# Altium footprint library Generic Connector.PcbLib: 143 footprints (part 5 of 9)
Each footprint in its own frame and in the unit in brackets; x right, y up, seen from the top. Pads: shape width x height; smd on the part's side, far side on the other; paste and mask are expansions set on the pad; w line width, h text height; cw(c..) or ccw(c..) is an arc to the next point about the centre after c.
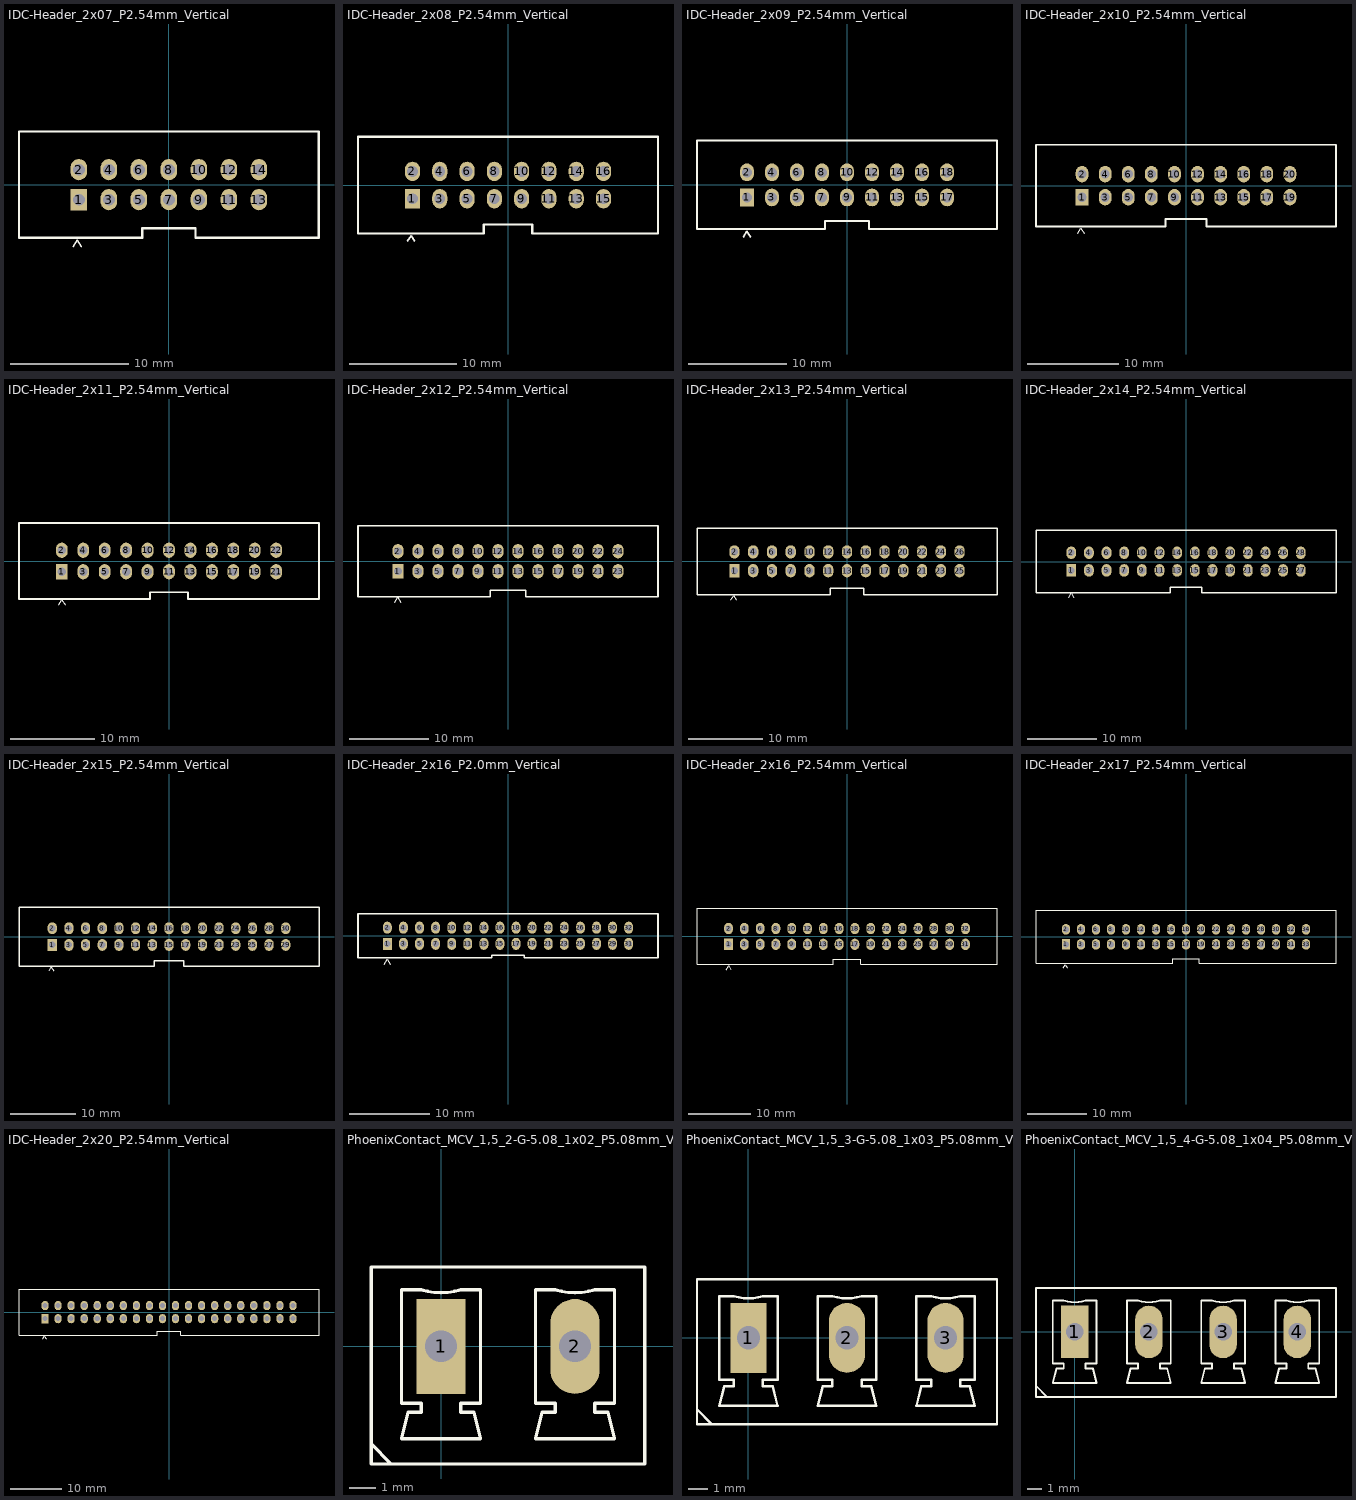
[diagram p4: the footprints below, top view; thin cyan lines are the x and y axes]

## IDC-Header_2x07_P2.54mm_Vertical [mm]
pads (14):
  rect 1.4x1.8 hole 1: 1(-7.62,-1.27)
  oval 1.4x1.8 hole 1: 2(-7.62,1.27) 3(-5.08,-1.27) 4(-5.08,1.27) 5(-2.54,-1.27) 6(-2.54,1.27) 7(0,-1.27) 8(0,1.27) 9(2.54,-1.27) 10(2.54,1.27) 11(5.08,-1.27) 12(5.08,1.27) 13(7.62,-1.27) 14(7.62,1.27)
Top Overlay:
  lines w0.127: -8.087,-5.233 -7.747,-4.699 -7.407,-5.233
  lines w0.2: 12.69,-4.5 12.69,4.5 -12.69,4.5 -12.69,-4.5 -2.25,-4.5 -2.25,-3.683 2.25,-3.683 2.25,-4.5 12.7,-4.5
3D body "IDC-Header_2x07_P2.54mm_Vertical.step": height 9.1, standoff -3, extent -12.644,-4.628 12.796,4.472

## IDC-Header_2x08_P2.54mm_Vertical [mm]
pads (16):
  rect 1.4x1.8 hole 1: 1(-8.89,-1.27)
  oval 1.4x1.8 hole 1: 2(-8.89,1.27) 3(-6.35,-1.27) 4(-6.35,1.27) 5(-3.81,-1.27) 6(-3.81,1.27) 7(-1.27,-1.27) 8(-1.27,1.27) 9(1.27,-1.27) 10(1.27,1.27) 11(3.81,-1.27) 12(3.81,1.27) 13(6.35,-1.27) 14(6.35,1.27) 15(8.89,-1.27) 16(8.89,1.27)
Top Overlay:
  lines w0.127: -9.357,-5.233 -9.017,-4.699 -8.677,-5.233
  lines w0.2: -13.96,-4.5 -13.96,4.5 13.96,4.5 13.96,-4.5 2.25,-4.5 2.25,-3.683 -2.25,-3.683 -2.25,-4.5 -13.96,-4.5
3D body "IDC-Header_2x08_P2.54mm_Vertical.step": height 9.1, standoff -3, extent -13.919,-4.55 14.061,4.55

## IDC-Header_2x09_P2.54mm_Vertical [mm]
pads (18):
  rect 1.4x1.8 hole 1: 1(-10.16,-1.27)
  oval 1.4x1.8 hole 1: 2(-10.16,1.27) 3(-7.62,-1.27) 4(-7.62,1.27) 5(-5.08,-1.27) 6(-5.08,1.27) 7(-2.54,-1.27) 8(-2.54,1.27) 9(0,-1.27) 10(0,1.27) 11(2.54,-1.27) 12(2.54,1.27) 13(5.08,-1.27) 14(5.08,1.27) 15(7.62,-1.27) 16(7.62,1.27) 17(10.16,-1.27) 18(10.16,1.27)
Top Overlay:
  lines w0.127: -10.541,-5.334 -10.16,-4.699 -9.779,-5.334
  lines w0.2: -15.23,-4.5 -15.23,4.5 15.23,4.5 15.23,-4.5 2.25,-4.5 2.25,-3.683 -2.25,-3.683 -2.25,-4.5 -15.23,-4.5

## IDC-Header_2x10_P2.54mm_Vertical [mm]
pads (20):
  rect 1.4x1.8 hole 1: 1(-11.43,-1.27)
  oval 1.4x1.8 hole 1: 2(-11.43,1.27) 3(-8.89,-1.27) 4(-8.89,1.27) 5(-6.35,-1.27) 6(-6.35,1.27) 7(-3.81,-1.27) 8(-3.81,1.27) 9(-1.27,-1.27) 10(-1.27,1.27) 11(1.27,-1.27) 12(1.27,1.27) 13(3.81,-1.27) 14(3.81,1.27) 15(6.35,-1.27) 16(6.35,1.27) 17(8.89,-1.27) 18(8.89,1.27) 19(11.43,-1.27) 20(11.43,1.27)
Top Overlay:
  lines w0.127: -11.897,-5.233 -11.557,-4.699 -11.217,-5.233
  lines w0.2: -16.5,-4.5 -16.5,4.5 16.5,4.5 16.5,-4.5 2.25,-4.5 2.25,-3.683 -2.25,-3.683 -2.25,-4.5 -16.5,-4.5
3D body "IDC-Header_2x10_P2.54mm_Vertical.step": height 9.1, standoff -3, extent -16.485,-4.601 16.575,4.499

## IDC-Header_2x11_P2.54mm_Vertical [mm]
pads (22):
  rect 1.4x1.8 hole 1: 1(-12.7,-1.27)
  oval 1.4x1.8 hole 1: 2(-12.7,1.27) 3(-10.16,-1.27) 4(-10.16,1.27) 5(-7.62,-1.27) 6(-7.62,1.27) 7(-5.08,-1.27) 8(-5.08,1.27) 9(-2.54,-1.27) 10(-2.54,1.27) 11(0,-1.27) 12(0,1.27) 13(2.54,-1.27) 14(2.54,1.27) 15(5.08,-1.27) 16(5.08,1.27) 17(7.62,-1.27) 18(7.62,1.27) 19(10.16,-1.27) 20(10.16,1.27) 21(12.7,-1.27) 22(12.7,1.27)
Top Overlay:
  lines w0.127: -13.081,-5.207 -12.7,-4.572 -12.319,-5.207
  lines w0.2: -17.77,-4.5 -2.25,-4.5 -2.25,-3.683 2.25,-3.683 2.25,-4.5 17.77,-4.5 17.77,4.5 -17.77,4.5 -17.77,-4.5

## IDC-Header_2x12_P2.54mm_Vertical [mm]
pads (24):
  rect 1.4x1.8 hole 1: 1(-13.97,-1.27)
  oval 1.4x1.8 hole 1: 2(-13.97,1.27) 3(-11.43,-1.27) 4(-11.43,1.27) 5(-8.89,-1.27) 6(-8.89,1.27) 7(-6.35,-1.27) 8(-6.35,1.27) 9(-3.81,-1.27) 10(-3.81,1.27) 11(-1.27,-1.27) 12(-1.27,1.27) 13(1.27,-1.27) 14(1.27,1.27) 15(3.81,-1.27) 16(3.81,1.27) 17(6.35,-1.27) 18(6.35,1.27) 19(8.89,-1.27) 20(8.89,1.27) 21(11.43,-1.27) 22(11.43,1.27) 23(13.97,-1.27) 24(13.97,1.27)
Top Overlay:
  lines w0.127: -14.351,-5.207 -13.97,-4.572 -13.589,-5.207
  lines w0.2: -19.04,-4.5 -2.25,-4.5 -2.25,-3.683 2.25,-3.683 2.25,-4.5 19.04,-4.5 19.04,4.5 -19.04,4.5 -19.04,-4.5

## IDC-Header_2x13_P2.54mm_Vertical [mm]
pads (26):
  rect 1.4x1.8 hole 1: 1(-15.24,-1.27)
  oval 1.4x1.8 hole 1: 2(-15.24,1.27) 3(-12.7,-1.27) 4(-12.7,1.27) 5(-10.16,-1.27) 6(-10.16,1.27) 7(-7.62,-1.27) 8(-7.62,1.27) 9(-5.08,-1.27) 10(-5.08,1.27) 11(-2.54,-1.27) 12(-2.54,1.27) 13(0,-1.27) 14(0,1.27) 15(2.54,-1.27) 16(2.54,1.27) 17(5.08,-1.27) 18(5.08,1.27) 19(7.62,-1.27) 20(7.62,1.27) 21(10.16,-1.27) 22(10.16,1.27) 23(12.7,-1.27) 24(12.7,1.27) 25(15.24,-1.27) 26(15.24,1.27)
Top Overlay:
  lines w0.127: -15.707,-5.233 -15.367,-4.699 -15.027,-5.233
  lines w0.2: -20.31,-4.5 -20.31,4.5 20.31,4.5 20.31,-4.5 2.25,-4.5 2.25,-3.683 -2.25,-3.683 -2.25,-4.5 -20.31,-4.5
3D body "IDC-Header_2x13_P2.54mm_Vertical.step": height 9.1, standoff -3, extent -20.244,-4.55 20.436,4.55

## IDC-Header_2x14_P2.54mm_Vertical [mm]
pads (28):
  rect 1.4x1.8 hole 1: 1(-16.51,-1.27)
  oval 1.4x1.8 hole 1: 2(-16.51,1.27) 3(-13.97,-1.27) 4(-13.97,1.27) 5(-11.43,-1.27) 6(-11.43,1.27) 7(-8.89,-1.27) 8(-8.89,1.27) 9(-6.35,-1.27) 10(-6.35,1.27) 11(-3.81,-1.27) 12(-3.81,1.27) 13(-1.27,-1.27) 14(-1.27,1.27) 15(1.27,-1.27) 16(1.27,1.27) 17(3.81,-1.27) 18(3.81,1.27) 19(6.35,-1.27) 20(6.35,1.27) 21(8.89,-1.27) 22(8.89,1.27) 23(11.43,-1.27) 24(11.43,1.27) 25(13.97,-1.27) 26(13.97,1.27) 27(16.51,-1.27) 28(16.51,1.27)
Top Overlay:
  lines w0.127: -16.891,-5.207 -16.51,-4.572 -16.129,-5.207
  lines w0.2: -21.58,-4.5 -2.25,-4.5 -2.25,-3.683 2.25,-3.683 2.25,-4.5 21.58,-4.5 21.58,4.5 -21.58,4.5 -21.58,-4.5

## IDC-Header_2x15_P2.54mm_Vertical [mm]
pads (30):
  rect 1.4x1.8 hole 1: 1(-17.78,-1.27)
  oval 1.4x1.8 hole 1: 2(-17.78,1.27) 3(-15.24,-1.27) 4(-15.24,1.27) 5(-12.7,-1.27) 6(-12.7,1.27) 7(-10.16,-1.27) 8(-10.16,1.27) 9(-7.62,-1.27) 10(-7.62,1.27) 11(-5.08,-1.27) 12(-5.08,1.27) 13(-2.54,-1.27) 14(-2.54,1.27) 15(0,-1.27) 16(0,1.27) 17(2.54,-1.27) 18(2.54,1.27) 19(5.08,-1.27) 20(5.08,1.27) 21(7.62,-1.27) 22(7.62,1.27) 23(10.16,-1.27) 24(10.16,1.27) 25(12.7,-1.27) 26(12.7,1.27) 27(15.24,-1.27) 28(15.24,1.27) 29(17.78,-1.27) 30(17.78,1.27)
Top Overlay:
  lines w0.127: -18.247,-5.233 -17.907,-4.699 -17.567,-5.233
  lines w0.2: -22.85,-4.5 -22.85,4.5 22.85,4.5 22.85,-4.5 2.25,-4.5 2.25,-3.683 -2.25,-3.683 -2.25,-4.5 -22.85,-4.5
3D body "IDC-Header_2x15_P2.54mm_Vertical.step": height 9.1, standoff -3, extent -22.85,-4.55 22.91,4.55

## IDC-Header_2x16_P2.0mm_Vertical [mm]
pads (32):
  rect 1.1x1.5 hole 0.8: 1(-15,-1)
  oval 1.1x1.5 hole 0.8: 2(-15,1) 3(-13,-1) 4(-13,1) 5(-11,-1) 6(-11,1) 7(-9,-1) 8(-9,1) 9(-7,-1) 10(-7,1) 11(-5,-1) 12(-5,1) 13(-3,-1) 14(-3,1) 15(-1,-1) 16(-1,1) 17(1,-1) 18(1,1) 19(3,-1) 20(3,1) 21(5,-1) 22(5,1) 23(7,-1) 24(7,1) 25(9,-1) 26(9,1) 27(11,-1) 28(11,1) 29(13,-1) 30(13,1) 31(15,-1) 32(15,1)
Top Overlay:
  lines w0.127: -15.381,-3.556 -15,-2.921 -14.619,-3.556
  lines w0.2: -18.65,-2.75 -18.65,2.75 18.65,2.75 18.65,-2.75 2,-2.75 2,-2.413 -2,-2.413 -2,-2.75 -18.65,-2.75

## IDC-Header_2x16_P2.54mm_Vertical [mm]
pads (32):
  rect 1.4x1.8 hole 1: 1(-19.05,-1.27)
  oval 1.4x1.8 hole 1: 2(-19.05,1.27) 3(-16.51,-1.27) 4(-16.51,1.27) 5(-13.97,-1.27) 6(-13.97,1.27) 7(-11.43,-1.27) 8(-11.43,1.27) 9(-8.89,-1.27) 10(-8.89,1.27) 11(-6.35,-1.27) 12(-6.35,1.27) 13(-3.81,-1.27) 14(-3.81,1.27) 15(-1.27,-1.27) 16(-1.27,1.27) 17(1.27,-1.27) 18(1.27,1.27) 19(3.81,-1.27) 20(3.81,1.27) 21(6.35,-1.27) 22(6.35,1.27) 23(8.89,-1.27) 24(8.89,1.27) 25(11.43,-1.27) 26(11.43,1.27) 27(13.97,-1.27) 28(13.97,1.27) 29(16.51,-1.27) 30(16.51,1.27) 31(19.05,-1.27) 32(19.05,1.27)
Top Overlay:
  lines w0.127: -19.431,-5.334 -19.05,-4.699 -18.669,-5.334
  lines w0.2: -24.12,-4.5 -24.12,4.5 24.12,4.5 24.12,-4.5 2.25,-4.5 2.25,-3.683 -2.25,-3.683 -2.25,-4.5 -24.12,-4.5

## IDC-Header_2x17_P2.54mm_Vertical [mm]
pads (34):
  rect 1.4x1.8 hole 1: 1(-20.32,-1.27)
  oval 1.4x1.8 hole 1: 2(-20.32,1.27) 3(-17.78,-1.27) 4(-17.78,1.27) 5(-15.24,-1.27) 6(-15.24,1.27) 7(-12.7,-1.27) 8(-12.7,1.27) 9(-10.16,-1.27) 10(-10.16,1.27) 11(-7.62,-1.27) 12(-7.62,1.27) 13(-5.08,-1.27) 14(-5.08,1.27) 15(-2.54,-1.27) 16(-2.54,1.27) 17(0,-1.27) 18(0,1.27) 19(2.54,-1.27) 20(2.54,1.27) 21(5.08,-1.27) 22(5.08,1.27) 23(7.62,-1.27) 24(7.62,1.27) 25(10.16,-1.27) 26(10.16,1.27) 27(12.7,-1.27) 28(12.7,1.27) 29(15.24,-1.27) 30(15.24,1.27) 31(17.78,-1.27) 32(17.78,1.27) 33(20.32,-1.27) 34(20.32,1.27)
Top Overlay:
  lines w0.127: -20.787,-5.233 -20.447,-4.699 -20.107,-5.233
  lines w0.2: -25.39,-4.5 -2.25,-4.5 -2.25,-3.683 2.25,-3.683 2.25,-4.5 25.39,-4.5 25.39,4.5 -25.39,4.5 -25.39,-4.5
3D body "IDC-Header_2x17_P2.54mm_Vertical.step": height 9.1, standoff -3, extent -25.324,-4.575 25.516,4.525

## IDC-Header_2x20_P2.54mm_Vertical [mm]
pads (40):
  rect 1.4x1.8 hole 1: 1(-24.13,-1.27)
  oval 1.4x1.8 hole 1: 2(-24.13,1.27) 3(-21.59,-1.27) 4(-21.59,1.27) 5(-19.05,-1.27) 6(-19.05,1.27) 7(-16.51,-1.27) 8(-16.51,1.27) 9(-13.97,-1.27) 10(-13.97,1.27) 11(-11.43,-1.27) 12(-11.43,1.27) 13(-8.89,-1.27) 14(-8.89,1.27) 15(-6.35,-1.27) 16(-6.35,1.27) 17(-3.81,-1.27) 18(-3.81,1.27) 19(-1.27,-1.27) 20(-1.27,1.27) 21(1.27,-1.27) 22(1.27,1.27) 23(3.81,-1.27) 24(3.81,1.27) 25(6.35,-1.27) 26(6.35,1.27) 27(8.89,-1.27) 28(8.89,1.27) 29(11.43,-1.27) 30(11.43,1.27) 31(13.97,-1.27) 32(13.97,1.27) 33(16.51,-1.27) 34(16.51,1.27) 35(19.05,-1.27) 36(19.05,1.27) 37(21.59,-1.27) 38(21.59,1.27) 39(24.13,-1.27) 40(24.13,1.27)
Top Overlay:
  lines w0.127: -24.597,-5.233 -24.257,-4.699 -23.917,-5.233
  lines w0.2: -29.2,-4.5 -29.2,4.5 29.2,4.5 29.2,-4.5 2.25,-4.5 2.25,-3.683 -2.25,-3.683 -2.25,-4.5 -29.2,-4.5
3D body "IDC-Header_2x20_P2.54mm_Vertical.step": height 9.1, standoff -3, extent -29.2,-4.5 29.26,4.6

## PhoenixContact_MCV_1,5_2-G-5.08_1x02_P5.08mm_Vertical [mm]
pads (2):
  rect 1.87x3.6 hole 1.2: 1(0,0)
  oval 1.87x3.6 hole 1.2: 2(5.08,0)
Top Overlay:
  lines w0.127: -2.65,-3.683 -1.905,-4.445 ; -2.65,-4.46 7.73,-4.46 7.73,3.01 -2.65,3.01 -2.65,-4.46 ; -1.5,-3.5 -1.25,-2.5 -0.75,-2.5 -0.75,-2.15 -1.5,-2.15 -1.5,2.15 -0.75,2.15 ccw(c0,4.474) 0.75,2.15 1.5,2.15 1.5,-2.15 0.75,-2.15 0.75,-2.5 1.25,-2.5 1.5,-3.5 -1.5,-3.5 ; 3.58,-3.5 6.58,-3.5 6.33,-2.5 5.83,-2.5 5.83,-2.15 6.58,-2.15 6.58,2.15 5.83,2.15 cw(c5.08,4.474) 4.33,2.15 3.58,2.15 3.58,-2.15 4.33,-2.15 4.33,-2.5 3.83,-2.5 3.58,-3.5

## PhoenixContact_MCV_1,5_3-G-5.08_1x03_P5.08mm_Vertical [mm]
pads (3):
  rect 1.87x3.6 hole 1.2: 1(0,0)
  oval 1.87x3.6 hole 1.2: 2(5.08,0) 3(10.16,0)
Top Overlay:
  lines w0.127: -2.65,-3.683 -1.905,-4.445 ; -2.65,-4.46 12.81,-4.46 12.81,3.01 -2.65,3.01 -2.65,-4.46 ; -1.5,-3.5 -1.25,-2.5 -0.75,-2.5 -0.75,-2.15 -1.5,-2.15 -1.5,2.15 -0.75,2.15 ccw(c0,4.474) 0.75,2.15 1.5,2.15 1.5,-2.15 0.75,-2.15 0.75,-2.5 1.25,-2.5 1.5,-3.5 -1.5,-3.5 ; 3.58,-3.5 6.58,-3.5 6.33,-2.5 5.83,-2.5 5.83,-2.15 6.58,-2.15 6.58,2.15 5.83,2.15 cw(c5.08,4.474) 4.33,2.15 3.58,2.15 3.58,-2.15 4.33,-2.15 4.33,-2.5 3.83,-2.5 3.58,-3.5 ; 8.66,-3.5 11.66,-3.5 11.41,-2.5 10.91,-2.5 10.91,-2.15 11.66,-2.15 11.66,2.15 10.91,2.15 cw(c10.16,4.474) 9.41,2.15 8.66,2.15 8.66,-2.15 9.41,-2.15 9.41,-2.5 8.91,-2.5 8.66,-3.5

## PhoenixContact_MCV_1,5_4-G-5.08_1x04_P5.08mm_Vertical [mm]
pads (4):
  rect 1.87x3.6 hole 1.2: 1(0,0)
  oval 1.87x3.6 hole 1.2: 2(5.08,0) 3(10.16,0) 4(15.24,0)
Top Overlay:
  lines w0.127: -2.65,-3.683 -1.905,-4.445 ; -2.65,-4.46 17.89,-4.46 17.89,3.01 -2.65,3.01 -2.65,-4.46 ; -1.5,-3.5 -1.25,-2.5 -0.75,-2.5 -0.75,-2.15 -1.5,-2.15 -1.5,2.15 -0.75,2.15 ccw(c0,4.474) 0.75,2.15 1.5,2.15 1.5,-2.15 0.75,-2.15 0.75,-2.5 1.25,-2.5 1.5,-3.5 -1.5,-3.5 ; 3.58,-3.5 6.58,-3.5 6.33,-2.5 5.83,-2.5 5.83,-2.15 6.58,-2.15 6.58,2.15 5.83,2.15 cw(c5.08,4.474) 4.33,2.15 3.58,2.15 3.58,-2.15 4.33,-2.15 4.33,-2.5 3.83,-2.5 3.58,-3.5 ; 8.66,-3.5 11.66,-3.5 11.41,-2.5 10.91,-2.5 10.91,-2.15 11.66,-2.15 11.66,2.15 10.91,2.15 cw(c10.16,4.474) 9.41,2.15 8.66,2.15 8.66,-2.15 9.41,-2.15 9.41,-2.5 8.91,-2.5 8.66,-3.5 ; 13.74,-3.5 13.99,-2.5 14.49,-2.5 14.49,-2.15 13.74,-2.15 13.74,2.15 14.49,2.15 ccw(c15.24,4.474) 15.99,2.15 16.74,2.15 16.74,-2.15 15.99,-2.15 15.99,-2.5 16.49,-2.5 16.74,-3.5 13.74,-3.5